# EAGLE library part 2X10-SMD-STIFT (library muccc)
Pfostenleiste 2x10 pol SMD
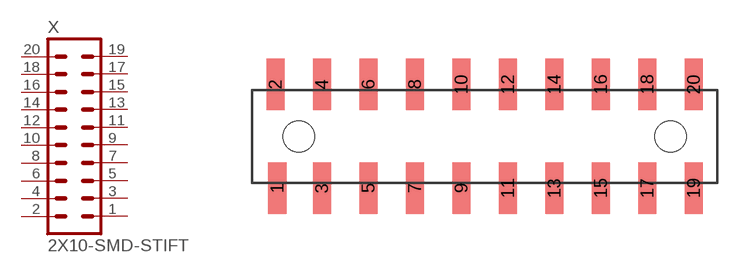
[diagram p12: symbol with the pads of MA10-2-SMD; footprint MA10-2-SMD]

Designator prefix X

## 2X10-SMD-STIFT  [MA10-2-SMD]
1  1  pas
2  2  pas
3  3  pas
4  4  pas
5  5  pas
6  6  pas
7  7  pas
8  8  pas
9  9  pas
10  10  pas
11  11  pas
12  12  pas
13  13  pas
14  14  pas
15  15  pas
16  16  pas
17  17  pas
18  18  pas
19  19  pas
20  20  pas

## Footprint MA10-2-SMD (pad centres in mm)
smd 1 x 2.8: 1 -11.33,-2.84; 2 -11.43,2.84; 3 -8.89,-2.84; 4 -8.89,2.84; 5 -6.35,-2.84; 6 -6.35,2.84; 7 -3.81,-2.84; 8 -3.81,2.84; 9 -1.27,-2.84; 10 -1.27,2.84; 11 1.27,-2.84; 12 1.27,2.84; 13 3.81,-2.84; 14 3.81,2.84; 15 6.35,-2.84; 16 6.35,2.84; 17 8.89,-2.84; 18 8.89,2.84; 19 11.43,-2.84; 20 11.43,2.84
hole 1.7 at -10.16,0
hole 1.7 at 10.16,0